# Altium footprint library PCB.PcbLib: 224 footprints (part 5 of 14)
Each footprint in its own frame and in the unit in brackets; x right, y up, seen from the top. Pads: shape width x height; smd on the part's side, far side on the other; paste and mask are expansions set on the pad; w line width, h text height; cw(c..) or ccw(c..) is an arc to the next point about the centre after c.
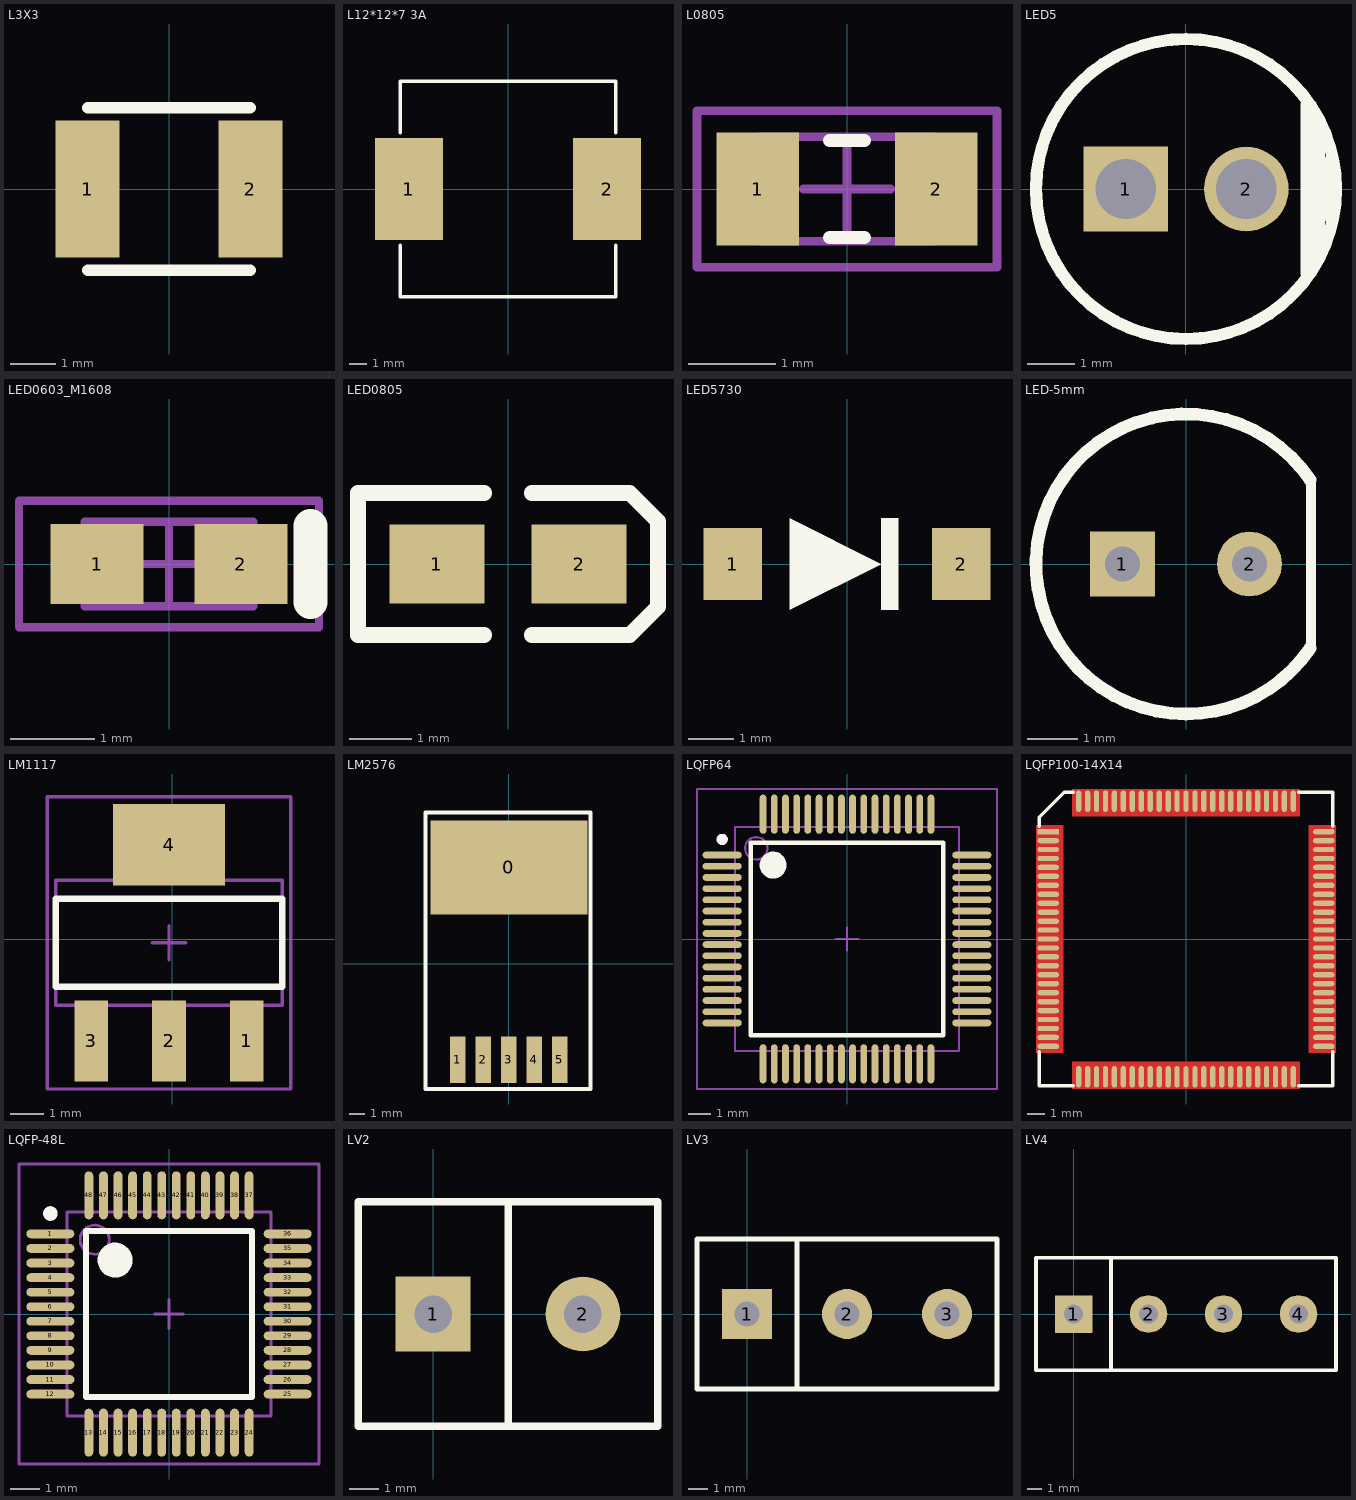
[diagram p4: the footprints below, top view; thin cyan lines are the x and y axes]

## L3X3 [mm]
pads (2):
  rect 1.4x3 smd: 1(-1.778,0) 2(1.778,0)
Top Overlay:
  lines w0.254: -1.778,-1.778 1.778,-1.778 ; -1.778,1.778 1.778,1.778

## L12*12*7 3A [mm]
pads (2):
  rect 4x6 smd: 1(-5.842,0) 2(5.842,0)
Top Overlay:
  lines w0.2: -6.35,-3.302 -6.35,-6.35 6.35,-6.35 6.35,-3.302 ; -6.35,3.302 -6.35,6.35 6.35,6.35 6.35,3.302

## L0805 [mm] "Chip Inductor, 2-Leads, Body 2.0x1.2mm, IPC Medium Density"
height 1.27
pads (2):
  rect 0.95x1.3 smd: 1(-1.025,0) 2(1.025,0)
Top Overlay:
  lines w0.15: -0.203,-0.559 0.203,-0.559 ; -0.203,0.559 0.203,0.559
Mechanical 13:
  lines w0.1: -1,-0.6 1,-0.6 1,0.6 -1,0.6 -1,-0.6
Mechanical 15:
  lines w0.1: -0.5,0 0.5,0 ; 0,-0.5 0,0.5 ; -1.725,-0.9 1.725,-0.9 1.725,0.9 -1.725,0.9 -1.725,-0.9
3D body: height 1.27, standoff 0, extent -1,-0.6 1,0.6

## LED5 [mil]
pads (2):
  rect 70x70 hole 50: 1(-50,0)
  round 70 hole 50: 2(50,0)
Top Overlay:
  circle w10: c0,0 r124.2
  lines w10: 100,-70 100,70 ; 100,-60 110,-50 110,45 100,55 ; 120,-25 120,25

## LED0603_M1608 [mm] "Molded Diode, 2-Leads, Body 1.9x0.8mm, IPC Medium Density"
height 0.9
pads (2):
  rect 1.1x0.95 smd: 1(-0.85,0) 2(0.85,0)
Top Overlay:
  lines w0.4: 1.675,-0.45 1.675,0.45
Mechanical 13:
  rectangle: -1,-0.5 -0.731,0.5
  lines w0.1: -1,-0.5 1,-0.5 1,0.5 -1,0.5 -1,-0.5
Mechanical 15:
  lines w0.1: -0.5,0 0.5,0 ; 0,-0.5 0,0.5 ; -1.775,-0.75 1.775,-0.75 1.775,0.75 -1.775,0.75 -1.775,-0.75
3D body: height 0.9, standoff 0, extent -1,-0.5 1,0.5

## LED0805 [mil]
pads (2):
  rect 60x50 smd: 1(-45,0) 2(45,0)
Top Overlay:
  lines w10: -15,-45 -95,-45 -95,45 -15,45 ; 15,-45 77.05,-45 95,-27.05 95,27.05 77.05,45 15,45

## LED5730 [mm]
pads (2):
  rect 1.3x1.6 smd: 1(-2.54,0) 2(2.54,0)
Top Overlay:
  region: -1.27,1.016 0.762,0 -1.27,-1.016
  region: 0.762,1.016 1.143,1.016 1.143,-1.016 0.762,-1.016

## LED-5mm [mm]
pads (2):
  rect 1.3x1.3 hole 0.7: 1(-1.27,0)
  round 1.3 hole 0.7: 2(1.27,0)
Top Overlay:
  lines w0.2: 2.5,-1.687 2.5,1.617
  lines w0.254: 2.481,-1.687 cw(c0,0) 0,-3 cw(c0,0) 2.481,1.687

## LM1117 [mm] "SOT223"
height 1.8
pads (4):
  rect 1x2.4 smd: 1(2.2,-3) 2(-0.1,-3) 3(-2.4,-3)
  rect 3.3x2.4 smd: 4(-0.1,2.8)
Top Overlay:
  lines w0.2: -3.45,-1.4 3.25,-1.4 3.25,1.2 -3.45,1.2 -3.45,-1.4
Mechanical 13:
  lines w0.1: -3.45,-1.95 3.25,-1.95 3.25,1.75 -3.45,1.75 -3.45,-1.95
Mechanical 15:
  lines w0.1: -0.6,-0.1 0.4,-0.1 ; -0.1,-0.6 -0.1,0.4 ; -3.7,-4.425 3.5,-4.425 3.5,4.225 -3.7,4.225 -3.7,-4.425
3D body: height 1.8, standoff 0.02, extent -3.45,-1.95 3.25,1.75

## LM2576 [mm]
pads (6):
  rect 10.16x6.096 smd: 0(0.002,6.223)
  rect 1x3 smd: 1(-3.3,-6.223) 2(-1.65,-6.223) 3(0,-6.223) 4(1.65,-6.223) 5(3.3,-6.223)
Top Overlay:
  lines w0.254: -5.4,-8.123 4.4,-8.123 5.3,-8.123 5.3,9.777 5.1,9.777 -5.4,9.777 -5.4,-8.123

## LQFP64 [mm] "64-Lead Low Profile Quad Flat Package [LQFP], IPC Medium Density"
height 1.6
pads (64):
  oval 1.75x0.3 smd: 1(-5.575,3.75) 2(-5.575,3.25) 3(-5.575,2.75) 4(-5.575,2.25) 5(-5.575,1.75) 6(-5.575,1.25) 7(-5.575,0.75) 8(-5.575,0.25) 9(-5.575,-0.25) 10(-5.575,-0.75) 11(-5.575,-1.25) 12(-5.575,-1.75) 13(-5.575,-2.25) 14(-5.575,-2.75) 15(-5.575,-3.25) 16(-5.575,-3.75) 33(5.575,-3.75) 34(5.575,-3.25) 35(5.575,-2.75) 36(5.575,-2.25) 37(5.575,-1.75) 38(5.575,-1.25) 39(5.575,-0.75) 40(5.575,-0.25) 41(5.575,0.25) 42(5.575,0.75) 43(5.575,1.25) 44(5.575,1.75) 45(5.575,2.25) 46(5.575,2.75) 47(5.575,3.25) 48(5.575,3.75)
  oval 0.3x1.75 smd: 17(-3.75,-5.575) 18(-3.25,-5.575) 19(-2.75,-5.575) 20(-2.25,-5.575) 21(-1.75,-5.575) 22(-1.25,-5.575) 23(-0.75,-5.575) 24(-0.25,-5.575) 25(0.25,-5.575) 26(0.75,-5.575) 27(1.25,-5.575) 28(1.75,-5.575) 29(2.25,-5.575) 30(2.75,-5.575) 31(3.25,-5.575) 32(3.75,-5.575) 49(3.75,5.575) 50(3.25,5.575) 51(2.75,5.575) 52(2.25,5.575) 53(1.75,5.575) 54(1.25,5.575) 55(0.75,5.575) 56(0.25,5.575) 57(-0.25,5.575) 58(-0.75,5.575) 59(-1.25,5.575) 60(-1.75,5.575) 61(-2.25,5.575) 62(-2.75,5.575) 63(-3.25,5.575) 64(-3.75,5.575)
Top Overlay:
  circle w0.6: c-3.3,3.3 r0.3
  circle w0.25: c-5.575,4.45 r0.125
  lines w0.2: -4.3,-4.3 4.3,-4.3 4.3,4.3 -4.3,4.3 -4.3,-4.3
Mechanical 13:
  circle w0.1: c-4.05,4.05 r0.5
  lines w0.1: -5,-5 5,-5 5,5 -5,5 -5,-5
Mechanical 15:
  lines w0.1: -0.5,0 0.5,0 ; 0,-0.5 0,0.5 ; -6.7,-6.7 6.7,-6.7 6.7,6.7 -6.7,6.7 -6.7,-6.7
3D body: height 1.6, standoff 0.05, extent -5,-5 5,5

## LQFP100-14X14 [mm]
pads (100):
  rect 1.2x0.3 smd: 1(-7.7,6)
  oval 1.2x0.3 smd: 2(-7.7,5.5) 3(-7.7,5) 4(-7.7,4.5) 5(-7.7,4) 6(-7.7,3.5) 7(-7.7,3) 8(-7.7,2.5) 9(-7.7,2) 10(-7.7,1.5) 11(-7.7,1) 12(-7.7,0.5) 13(-7.7,0) 14(-7.7,-0.5) 15(-7.7,-1) 16(-7.7,-1.5) 17(-7.7,-2) 18(-7.7,-2.5) 19(-7.7,-3) 20(-7.7,-3.5) 21(-7.7,-4) 22(-7.7,-4.5) 23(-7.7,-5) 24(-7.7,-5.5) 25(-7.7,-6) 51(7.7,-6) 52(7.7,-5.5) 53(7.7,-5) 54(7.7,-4.5) 55(7.7,-4) 56(7.7,-3.5) 57(7.7,-3) 58(7.7,-2.5) 59(7.7,-2) 60(7.7,-1.5) 61(7.7,-1) 62(7.7,-0.5) 63(7.7,0) 64(7.7,0.5) 65(7.7,1) 66(7.7,1.5) 67(7.7,2) 68(7.7,2.5) 69(7.7,3) 70(7.7,3.5) 71(7.7,4) 72(7.7,4.5) 73(7.7,5) 74(7.7,5.5) 75(7.7,6)
  oval 0.3x1.2 smd: 26(-6,-7.7) 27(-5.5,-7.7) 28(-5,-7.7) 29(-4.5,-7.7) 30(-4,-7.7) 31(-3.5,-7.7) 32(-3,-7.7) 33(-2.5,-7.7) 34(-2,-7.7) 35(-1.5,-7.7) 36(-1,-7.7) 37(-0.5,-7.7) 38(0,-7.7) 39(0.5,-7.7) 40(1,-7.7) 41(1.5,-7.7) 42(2,-7.7) 43(2.5,-7.7) 44(3,-7.7) 45(3.5,-7.7) 46(4,-7.7) 47(4.5,-7.7) 48(5,-7.7) 49(5.5,-7.7) 50(6,-7.7) 76(6,7.7) 77(5.5,7.7) 78(5,7.7) 79(4.5,7.7) 80(4,7.7) 81(3.5,7.7) 82(3,7.7) 83(2.5,7.7) 84(2,7.7) 85(1.5,7.7) 86(1,7.7) 87(0.5,7.7) 88(0,7.7) 89(-0.5,7.7) 90(-1,7.7) 91(-1.5,7.7) 92(-2,7.7) 93(-2.5,7.7) 94(-3,7.7) 95(-3.5,7.7) 96(-4,7.7) 97(-4.5,7.7) 98(-5,7.7) 99(-5.5,7.7) 100(-6,7.7)
Top Layer:
  pour cut-out: 6.35,6.858 6.35,8.382 -6.35,8.382 -6.35,6.858
  pour cut-out: 8.382,-6.35 6.858,-6.35 6.858,6.35 8.382,6.35
  pour cut-out: -6.35,-6.858 -6.35,-8.382 6.35,-8.382 6.35,-6.858
  pour cut-out: -8.382,6.35 -6.858,6.35 -6.858,-6.35 -8.382,-6.35
Top Overlay:
  lines w0.2: -8.2,-6.3 -8.2,-8.2 -6.3,-8.2 ; -8.2,6.3 -8.2,6.8 -6.8,8.2 -6.3,8.2 ; 6.3,-8.2 8.2,-8.2 8.2,-6.3 ; 6.3,8.2 8.2,8.2 8.2,6.3

## LQFP-48L [mm] "TSQFP, 48-Leads, Body 9.0x9.0mm (max), Pitch 0.50mm, IPC Medium Density"
height 1.6
pads (48):
  oval 1.65x0.3 smd: 1(-4.075,2.75) 2(-4.075,2.25) 3(-4.075,1.75) 4(-4.075,1.25) 5(-4.075,0.75) 6(-4.075,0.25) 7(-4.075,-0.25) 8(-4.075,-0.75) 9(-4.075,-1.25) 10(-4.075,-1.75) 11(-4.075,-2.25) 12(-4.075,-2.75) 25(4.075,-2.75) 26(4.075,-2.25) 27(4.075,-1.75) 28(4.075,-1.25) 29(4.075,-0.75) 30(4.075,-0.25) 31(4.075,0.25) 32(4.075,0.75) 33(4.075,1.25) 34(4.075,1.75) 35(4.075,2.25) 36(4.075,2.75)
  oval 0.3x1.65 smd: 13(-2.75,-4.075) 14(-2.25,-4.075) 15(-1.75,-4.075) 16(-1.25,-4.075) 17(-0.75,-4.075) 18(-0.25,-4.075) 19(0.25,-4.075) 20(0.75,-4.075) 21(1.25,-4.075) 22(1.75,-4.075) 23(2.25,-4.075) 24(2.75,-4.075) 37(2.75,4.075) 38(2.25,4.075) 39(1.75,4.075) 40(1.25,4.075) 41(0.75,4.075) 42(0.25,4.075) 43(-0.25,4.075) 44(-0.75,4.075) 45(-1.25,4.075) 46(-1.75,4.075) 47(-2.25,4.075) 48(-2.75,4.075)
Top Overlay:
  circle w0.6: c-1.85,1.85 r0.3
  circle w0.25: c-4.075,3.45 r0.125
  lines w0.2: -2.85,-2.85 2.85,-2.85 2.85,2.85 -2.85,2.85 -2.85,-2.85
Mechanical 13:
  circle w0.1: c-2.55,2.55 r0.5
  lines w0.1: -3.5,-3.5 3.5,-3.5 3.5,3.5 -3.5,3.5 -3.5,-3.5
Mechanical 15:
  lines w0.1: -0.5,0 0.5,0 ; 0,-0.5 0,0.5 ; -5.15,-5.15 5.15,-5.15 5.15,5.15 -5.15,5.15 -5.15,-5.15
3D body: height 1.6, standoff 0.15, extent -3.5,-3.5 3.5,3.5

## LV2 [mm]
pads (2):
  rect 2.54x2.54 hole 1.27: 1(0,0)
  round 2.54 hole 1.27: 2(5.08,0)
Top Overlay:
  lines w0.254: 2.54,-3.81 2.54,3.81 ; -2.54,-3.81 7.62,-3.81 7.62,3.81 -2.54,3.81 -2.54,-3.81

## LV3 [mm]
pads (3):
  rect 2.54x2.54 hole 1.27: 1(0,0)
  round 2.54 hole 1.27: 2(5.08,0) 3(10.16,0)
Top Overlay:
  lines w0.254: 2.54,-3.81 2.54,3.81 ; -2.54,-3.81 12.7,-3.81 12.7,3.81 -2.54,3.81 -2.54,-3.81

## LV4 [mm]
pads (4):
  rect 2.54x2.54 hole 1.27: 1(0,0)
  round 2.54 hole 1.27: 2(5.08,0) 3(10.16,0) 4(15.24,0)
Top Overlay:
  lines w0.254: 2.54,-3.81 2.54,3.81 ; -2.54,-3.81 -2.54,3.81 17.78,3.81 17.78,-3.81 -2.54,-3.81